# EAGLE library part LI-VM01CM (library biomimetic)
VGA camera module for OMAP Backpack Digi-Key P/N refers to the appropriate mating connector
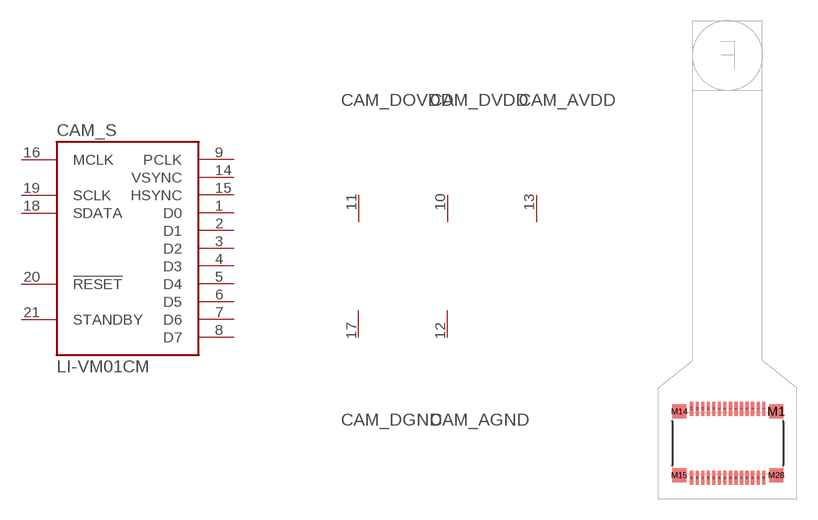
[diagram p13: symbol with the pads of AXK7L28227G; footprint AXK7L28227G]

Designator prefix CAM; gates _S=LI-VM01CM _DVDD=V+ _DOVDD=V+ _AVDD=V+ _DGND=V- _AGND=V-

## LI-VM01CM (DIGIKEY: 255-3150-1-ND)  [AXK7L28227G]
1  _S:D0  out
2  _S:D1  out
3  _S:D2  out
4  _S:D3  out
5  _S:D4  out
6  _S:D5  out
7  _S:D6  out
8  _S:D7  out
9  _S:PCLK  out
10  _DVDD:V+  pwr
11  _DOVDD:V+  pwr
12  _AGND:V-  pwr
13  _AVDD:V+  pwr
14  _S:VSYNC  in
15  _S:HSYNC  in
16  _S:MCLK  in
17  _DGND:V-  pwr
18  _S:SDATA
19  _S:SCLK  in
20  _S:!RESET  in
21  _S:STANDBY  in

## Footprint AXK7L28227G (pad centres in mm)
smd 0.23 x 1: 1 2.6,2.5; 2 2.2,2.5; 3 1.8,2.5; 4 1.4,2.5; 5 1,2.5; 6 0.6,2.5; 7 0.2,2.5; 8 -0.2,2.5; 9 -0.6,2.5; 10 -1,2.5; 11 -1.4,2.5; 12 -1.8,2.5; 13 -2.2,2.5; 14 -2.6,2.5; 15 -2.6,-2.5; 16 -2.2,-2.5; 17 -1.8,-2.5; 18 -1.4,-2.5; 19 -1,-2.5; 20 -0.6,-2.5; 21 -0.2,-2.5; 22 0.2,-2.5; 23 0.6,-2.5; 24 1,-2.5; 25 1.4,-2.5; 26 1.8,-2.5; 27 2.2,-2.5; 28 2.6,-2.5
smd 1 x 1: M1 3.5,2.3; M14 -3.5,2.3; M15 -3.5,-2.3; M28 3.5,-2.3